# Altium footprint library SIM_connector.PcbLib: 1 footprints
Each footprint in its own frame and in the unit in brackets; x right, y up, seen from the top. Pads: shape width x height; smd on the part's side, far side on the other; paste and mask are expansions set on the pad; w line width, h text height; cw(c..) or ccw(c..) is an arc to the next point about the centre after c.
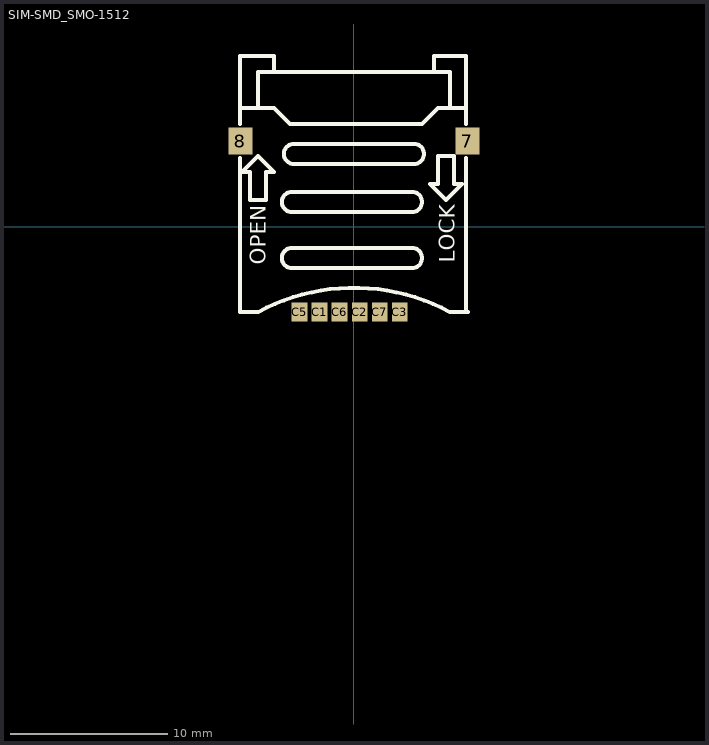
[diagram p0: the footprint, top view; thin cyan lines are the x and y axes]

## SIM-SMD_SMO-1512 [mm]
pads (8):
  rect 1.5x1.7 smd: 7(7.2,5.425) 8(-7.2,5.425)
  rect 1x1.2 smd: C1(-2.18,-5.425)
  rect 1.001x1.199 smd: C2(0.361,-5.425) C3(2.901,-5.425) C5(-3.449,-5.425) C6(-0.909,-5.425) C7(1.631,-5.425)
Top Overlay:
  lines w0.254: -7.23,4.344 -7.23,-5.425 -6.1,-5.425 ; -7.23,6.506 -7.23,10.831 -5.08,10.831 -5.08,9.815 5.08,9.815 5.08,10.831 7.112,10.831 7.112,6.506 ; -7.112,7.529 -5.08,7.529 -4.064,6.513 4.318,6.513 5.334,7.529 7.112,7.529 ; -6.096,-5.425 cw(c0.002,-16.711) 6.1,-5.425 ; -6.096,7.529 -6.096,9.815 6.096,9.815 6.096,7.529 ; 6.097,-5.425 7.227,-5.425 ; 7.112,-5.425 7.112,4.344 ; -7.112,3.465 -6.096,4.481 -5.08,3.465 -5.588,3.465 -5.588,1.687 -6.35,1.687 -6.604,1.687 -6.604,3.465 -7.112,3.465 ; -3.937,-2.631 cw(c-3.937,-1.996) -3.937,-1.361 3.683,-1.361 cw(c3.683,-1.996) 3.683,-2.631 -3.937,-2.631 ; -3.937,0.925 cw(c-3.937,1.56) -3.937,2.195 3.683,2.195 cw(c3.683,1.56) 3.683,0.925 -3.937,0.925 ; -3.81,3.973 cw(c-3.81,4.608) -3.81,5.243 3.81,5.243 cw(c3.81,4.608) 3.81,3.973 -3.81,3.973 ; 4.826,2.703 5.334,2.703 5.334,4.481 6.096,4.481 6.35,4.481 6.35,2.703 6.858,2.703 5.842,1.687 4.826,2.703
  text "OPEN" at -5.596,-2.415 h1
  text "LOCK" at 6.38,-2.311 h1